# Altium schematic symbol library DSC1001.SchLib: 1 symbol
Pins are listed as number, name and electrical type; pins without a type are passive.

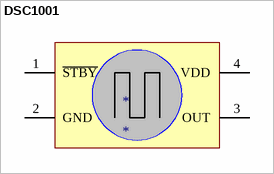
[diagram p0: symbol DSC1001]

## DSC1001
designator *
pins: 1 ~{STBY}, 2 GND, 3 OUT, 4 VDD